# Altium schematic symbol library SCH - POWER - LINEAR VREG - TI TLV2211_DBV_5.SchLib: 1 symbol
Pins are listed as number, name and electrical type; pins without a type are passive.

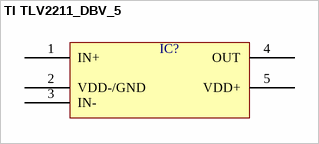
[diagram p0: symbol TI TLV2211_DBV_5]

## TI TLV2211_DBV_5
designator IC?  (value not drawn)
pins: 1 IN+, 2 VDD-/GND, 3 IN-, 4 OUT, 5 VDD+